# Altium schematic symbol library 全场定位RM.SchLib: 1 symbol
Pins are listed as number, name and electrical type; pins without a type are passive.

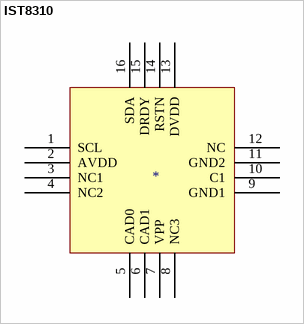
[diagram p0: symbol IST8310]

## IST8310
designator ?
footprint LGA-16(3mm*3mm)
pins: 1 SCL, 2 AVDD, 3 NC1, 4 NC2, 5 CAD0, 6 CAD1, 7 VPP, 8 NC3, 9 GND1, 10 C1, 11 GND2, 12 NC, 13 DVDD, 14 RSTN, 15 DRDY, 16 SDA